# Altium footprint library Mechanical.PcbLib: 37 footprints (part 3 of 3)
Each footprint in its own frame and in the unit in brackets; x right, y up, seen from the top. Pads: shape width x height; smd on the part's side, far side on the other; paste and mask are expansions set on the pad; w line width, h text height; cw(c..) or ccw(c..) is an arc to the next point about the centre after c.
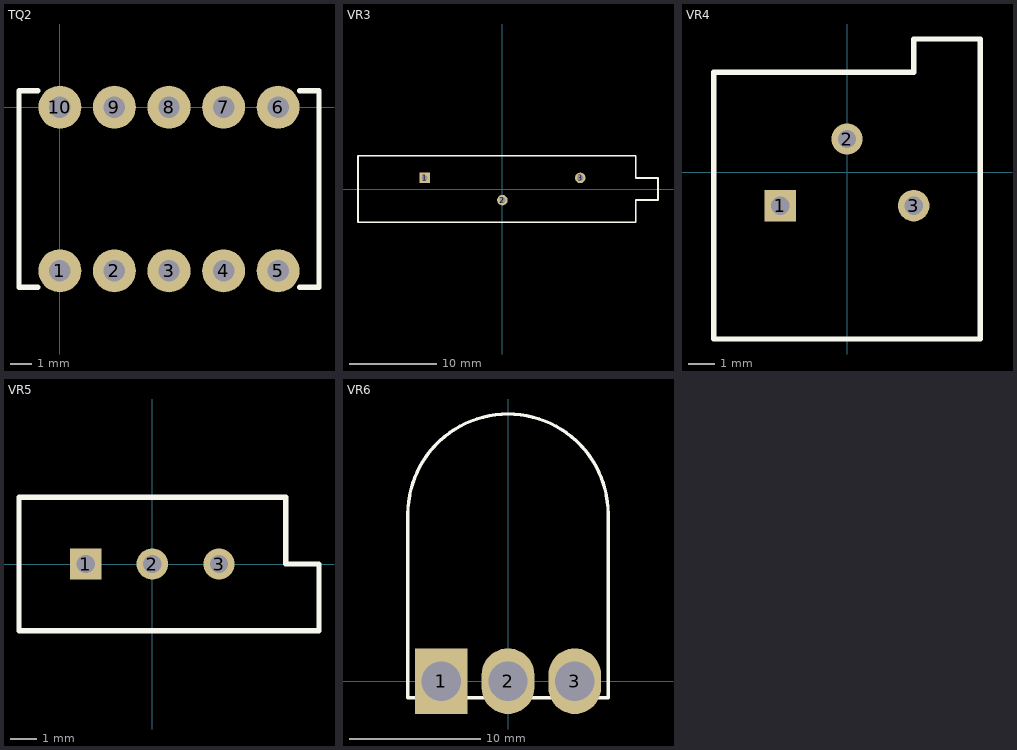
[diagram p2: the footprints below, top view; thin cyan lines are the x and y axes]

## TQ2 [mm] "Double Pole Double Throw Relay"
height 5
pads (10):
  round 2 hole 1: 1(0,-7.62) 2(2.54,-7.62) 3(5.08,-7.62) 4(7.62,-7.62) 5(10.16,-7.62) 6(10.16,0) 7(7.62,0) 8(5.08,0) 9(2.54,0) 10(0,0)
Top Overlay:
  lines w0.254: -1.032,-8.382 -1.905,-8.382 -1.905,0.762 -1.032,0.762 ; 11.176,-8.382 12.065,-8.382 12.065,0.762 11.176,0.762
3D body: height 5, standoff 0, extent -1.905,-8.382 12.065,0.762

## VR3 [mm] "Variable Resistor, Thru-Hole; 3 Leads"
pads (3):
  rect 1.2x1.2 hole 0.7: 1(-8.89,1.27)
  round 1.2 hole 0.7: 2(0,-1.27) 3(8.89,1.27)
Top Overlay:
  lines w0.2: -16.51,-3.81 -16.51,3.81 15.24,3.81 15.24,1.27 17.78,1.27 17.78,-1.27 15.24,-1.27 15.24,-3.81 -16.51,-3.81

## VR4 [mm] "Variable Resistor, Thru-Hole; 3 Leads"
pads (3):
  rect 1.2x1.2 hole 0.7: 1(-2.54,-1.27)
  round 1.2 hole 0.7: 2(0,1.27) 3(2.54,-1.27)
Top Overlay:
  lines w0.2: -5.08,-6.35 5.08,-6.35 5.08,5.08 2.54,5.08 2.54,3.81 -5.08,3.81 -5.08,-6.35

## VR5 [mm] "Variable Resistor, Thru-Hole; 3 Leads"
pads (3):
  rect 1.2x1.2 hole 0.7: 1(-2.54,0)
  round 1.2 hole 0.7: 2(0,0) 3(2.54,0)
Top Overlay:
  lines w0.2: -5.08,-2.54 -5.08,2.54 5.08,2.54 5.08,0 6.35,0 6.35,-2.54 -5.08,-2.54

## VR6 [mm] "Variable Resistor, Thru-Hole; 3 Leads"
height 11.5
pads (3):
  rect 4x5 hole 3: 1(-5.08,0)
  oval 4x5 hole 3: 2(0,0) 3(5.08,0)
Top Overlay:
  lines w0.254: -7.62,-1.27 7.62,-1.27 7.62,12.7 ccw(c0,12.7) -7.62,12.7 -7.62,-1.27